# Altium schematic symbol library STM32 24V Industrial IO Bridge.SCHLIB: 34 symbols
Pins are listed as number, name and electrical type; pins without a type are passive.

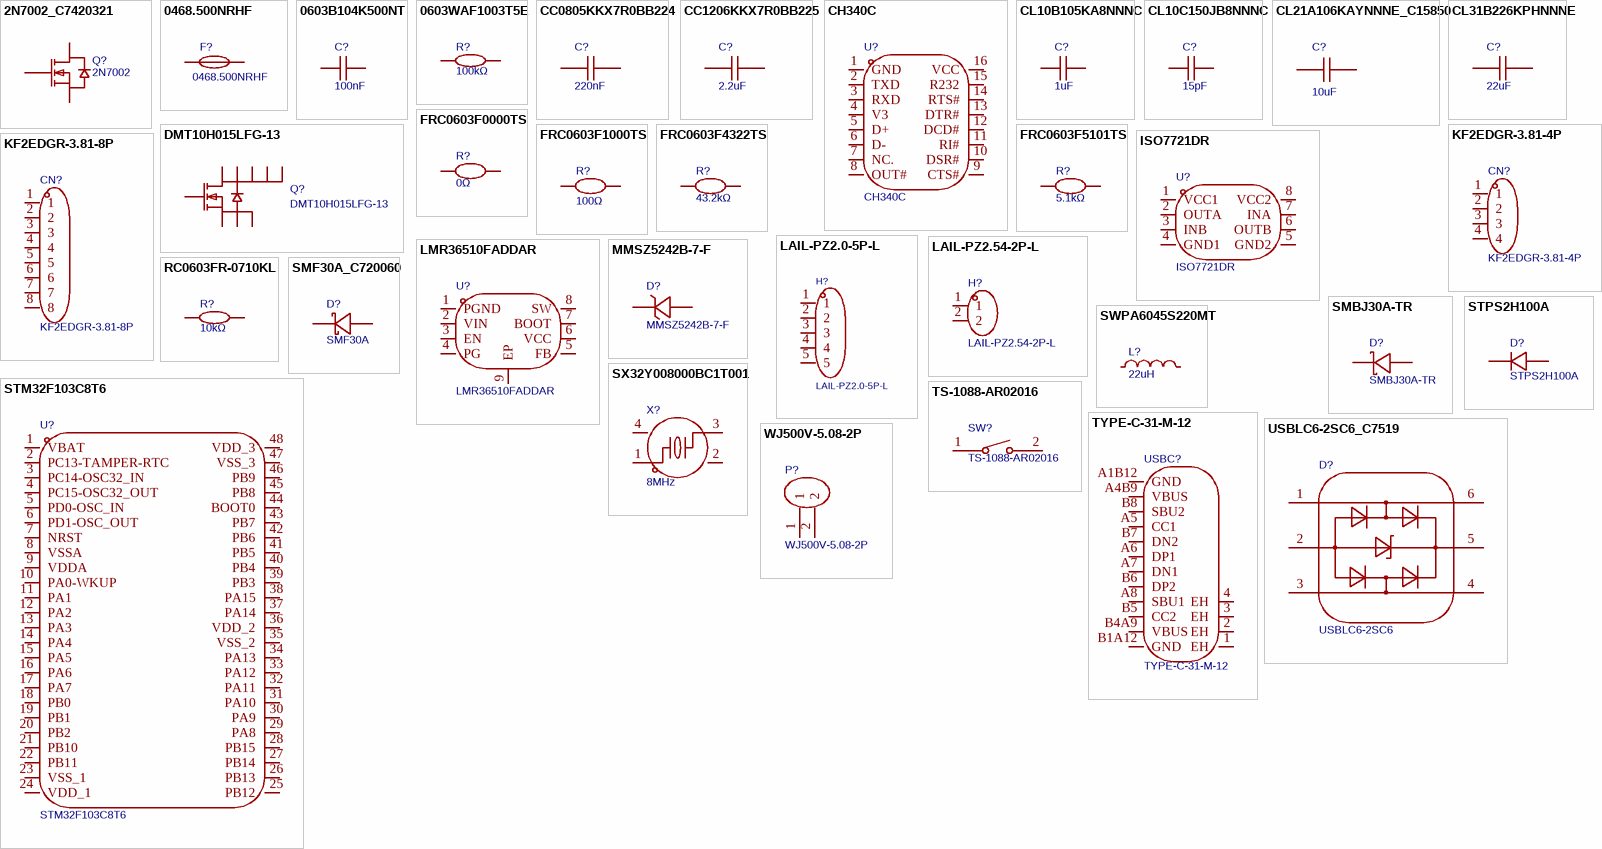
[diagram p0: symbols 2N7002_C7420321 to WJ500V-5.08-2P]

## 2N7002_C7420321
designator Q?, comment 2N7002
数量:1个N沟道;漏源电压(Vdss):60V;连续漏极电流(Id):115mA;导通电阻(RDS(on)):900mΩ@10V;耗散功率(Pd):225mW;阈值电压(Vgs(th)):1.6V@250uA;; Manufacturer: R+O(宏嘉诚); Symbol: 2N7002_C7420321; 3D Model: c62791f0466c4ae2a892c056b845b0ca聨0819f05c4eef4c71ace90d822a990e87; 3D Model Transform: 98.425,114.173,0,180,0,0,0.0005,-0.0005,0; Number: 1个N沟道; Drain to Source Voltage: 60V; Current - Continuous Drain(Id): 115mA; Pd - Power Dissipation: 225mW; Gate Charge(Qg): 1.6nC@10V; Input Capacitance(Ciss): 50pF; Reverse Transfer Capacitance (Crss@Vds): 5pF; Type: N沟道; Output Capacitance(Coss): 25pF; AddInBom: yes; ModelName: SOT-23-3P_L2.9-W1.3-H1.0-LS2.4-P0.95; Device: 2N7002_C7420321; LCSC Part Name: N沟道,电流:115mA,耐压:60V; Supplier Part: C7420321; Manufacturer Part: 2N7002; Supplier Footprint: SOT-23; JLCPCB Part Class: Extended Part; Datasheet: https://item.szlcsc.com/datasheet/2N7002/8397143.html; Supplier: LCSC; RDS(on): 900mΩ@10V; Gate Threshold Voltage (Vgs(th)): 1.6V@250uA; Operating Temperature: -55℃~+150℃; ConvertToPcb: yes; FootprintName: SOT-23-3_L2.9-W1.3-P1.90-LS2.4-BR
footprint SOT-23-3_L2.9-W1.3-P1.90-LS2.4-BR
3D model SOT-23-3P_L2.9-W1.3-H1.0-LS2.4-P0.95
pins: 1 G, 2 S, 3 D

## 0468.500NRHF
designator F?
类型:贴片式保险丝;额定电流:500mA;额定电压:63V;分断能力:50A;; Manufacturer: Littelfuse(美国力特); AddInBom: yes; ModelId: f1628daad26847a79b887277a2bc8541聨0819f05c4eef4c71ace90d822a990e87; ModelName: F1206_L3.2-W1.7-H0.6; ModelTransform: 125.984,66.929,0,0,0,0,0,0,0; Type: 贴片式保险丝; Current Rating: 500mA; Voltage Rating (DC): 63V; Melting I2t: 0.031; Interrupt Rating: 50A; Symbol: 0468.500NRHF; Device: 0468.500NRHF; LCSC Part Name: 贴片式保险丝; SupplierPart: C206993; ManufacturerPart: 0468.500NRHF; Supplier Footprint: 1206; JLCPCB Part Class: Extended Part; Datasheet: https://item.szlcsc.com/datasheet/0468.500NRHF/208112.html; Supplier: LCSC; ConvertToPcb: yes; FootprintName: F1206; Operating Temperature: -55℃~+90℃; Diameter (φD): -; Length: 3.2mm; Width: 1.6mm; Height: 0.635mm; Pitch: -
footprint F1206
pins: 1, 2

## 0603B104K500NT
designator C?, comment 100nF
容值:100nF;精度:±10%;额定电压:50V;温度系数:X7R;; Manufacturer: FH(风华); Symbol: 0603B104K500NT; Add into BOM: yes; 3D Model: ac125912035d415993ca9572d50418b1; 3D Model Transform: 62.992,31.496,0,0,0,0,0,0,0; Tolerance: ±10%; Voltage Rating: 50V; Temperature Coefficient: X7R; ModelName: C0603_L1.6-W0.8-H0.8; Device: 0603B104K500NT; Convert to PCB: yes; Supplier Footprint: 0603; Value: 100nF; LCSC Part Name: 100nF ±10% 50V; Supplier Part: C30926; Manufacturer Part: 0603B104K500NT; JLCPCB Part Class: Extended Part; Datasheet: https://item.szlcsc.com/datasheet/0603B104K500NT/31683.html; Supplier: LCSC; FootprintName: C0603
footprint C0603
3D model C0603_L1.6-W0.8-H0.8
pins: 1, 2

## 0603WAF1003T5E
designator R?, comment 100kΩ
电阻类型:厚膜电阻;阻值:100kΩ;精度:±1%;功率:100mW;工作电压:75V;温度系数:±100ppm/℃;; Manufacturer: UNI-ROYAL(厚声); Symbol: 0603WAF1003T5E; Add into BOM: yes; 3D Model: fc143cca1e79419f9cd78b61e9279f08; 3D Model Transform: 31.8897,63.7794,0,90,0,0,0,0,0; Tolerance: ±1%; Power(Watts): 100mW; Voltage-Supply(Max): 75V; ModelName: R0603; Device: 0603WAF1003T5E; Convert to PCB: yes; Supplier Footprint: 0603; Value: 100kΩ; LCSC Part Name: 厚膜电阻 100kΩ ±1%; Supplier Part: C25803; Manufacturer Part: 0603WAF1003T5E; JLCPCB Part Class: Basic Part; Datasheet: https://item.szlcsc.com/datasheet/0603WAF1003T5E/26546.html; Supplier: LCSC; Type: 厚膜电阻; Temperature Coefficient: ±100ppm/℃; Operating Temperature: -55℃~+155℃; FootprintName: R0603
footprint R0603
3D model R0603
pins: 1, 2

## CC0805KKX7R0BB224
designator C?, comment 220nF
容值:220nF;精度:±10%;额定电压:100V;温度系数:X7R;; Manufacturer: YAGEO(国巨); Symbol: CC0805KKX7R0BB224; Add into BOM: yes; 3D Model: 1ba041120af144c991958decab20d241; 3D Model Transform: 78.74,51.181,0,0,0,0,0,0.0005,0; Tolerance: ±10%; Voltage Rating: 100V; Temperature Coefficient: X7R; ModelName: C0805_L2.0-W1.3-H1.3; Device: CC0805KKX7R0BB224; Convert to PCB: yes; Value: 220nF; Supplier Footprint: 0805; LCSC Part Name: 220nF ±10% 100V; Supplier Part: C513710; Manufacturer Part: CC0805KKX7R0BB224; JLCPCB Part Class: Extended Part; Datasheet: https://item.szlcsc.com/datasheet/CC0805KKX7R0BB224/528537.html; Supplier: LCSC; FootprintName: C0805
footprint C0805
3D model C0805_L2.0-W1.3-H1.3
pins: 1, 2

## CC1206KKX7R0BB225
designator C?, comment 2.2uF
容值:2.2uF;精度:±10%;额定电压:100V;温度系数:X7R;; Manufacturer: YAGEO(国巨); Symbol: CC1206KKX7R0BB225; Add into BOM: yes; 3D Model: e4be705b945545a48e666415e3682bd8; 3D Model Transform: 125.984,62.992,0,0,0,0,0,0,0; Tolerance: ±10%; Voltage Rating: 100V; Temperature Coefficient: X7R; ModelName: C1206_L3.2-W1.6-H1.3; Device: CC1206KKX7R0BB225; Convert to PCB: yes; Value: 2.2uF; Supplier Footprint: 1206; LCSC Part Name: 2.2uF ±10% 100V; Supplier Part: C577211; Manufacturer Part: CC1206KKX7R0BB225; JLCPCB Part Class: Extended Part; Datasheet: https://item.szlcsc.com/datasheet/CC1206KKX7R0BB225/604702.html; Supplier: LCSC; FootprintName: C1206
footprint C1206
3D model C1206_L3.2-W1.6-H1.3
pins: 1, 2

## CH340C
designator U?
应用功能:收发器;USB协议版本:USB 2.0;通道数:-;数据速率:2Mbps;; Manufacturer: WCH(南京沁恒); AddInBom: yes; ModelId: 3361a6792abf4a8f8fbca4f1924a67ee聨0819f05c4eef4c71ace90d822a990e87; ModelName: SOP-16_L9.9-W3.9-H1.5-LS6.0-P1.27; ModelTransform: 240.39054,393.7,0,90,0,0,0,0,0; Applications Function: 收发器; USB Protocol: USB 2.0; Voltage - Supply: 3.3V；5V; Data Rate: 2Mbps; Current - Supply: 7mA; Quiescent Supply Current: 50uA; Symbol: CH340C; Device: CH340C; LCSC Part Name: USB转串口芯片; SupplierPart: C84681; ManufacturerPart: CH340C; Supplier Footprint: SOP-16; JLCPCB Part Class: Extended Part; Datasheet: https://item.szlcsc.com/datasheet/CH340C/85852.html; Supplier: LCSC; ConvertToPcb: yes; FootprintName: SOP-16_L10.0-W3.9-P1.27-LS6.0-BL; Number of Channels: -; Operating Temperature: -20℃~+70℃; Features: 可编程波特率；内置时钟发生器；上电复位
footprint SOP-16_L10.0-W3.9-P1.27-LS6.0-BL
pins: 1 GND, 2 TXD, 3 RXD, 4 V3, 5 D+, 6 D-, 7 NC., 8 OUT#, 9 CTS#, 10 DSR#, 11 RI#, 12 DCD#, 13 DTR#, 14 RTS#, 15 R232, 16 VCC

## CL10B105KA8NNNC
designator C?, comment 1uF
容值:1uF;精度:±10%;额定电压:25V;温度系数:X7R;; Manufacturer: SAMSUNG(三星); Symbol: CL10B105KA8NNNC; Add into BOM: yes; 3D Model: ac125912035d415993ca9572d50418b1; 3D Model Transform: 62.992,31.496,0,0,0,0,0,0,0; Tolerance: ±10%; Voltage Rating: 25V; Temperature Coefficient: X7R; ModelName: C0603_L1.6-W0.8-H0.8; Device: CL10B105KA8NNNC; Convert to PCB: yes; Value: 1uF; Supplier Footprint: 0603; LCSC Part Name: 1uF ±10% 25V; Supplier Part: C29936; Manufacturer Part: CL10B105KA8NNNC; JLCPCB Part Class: Extended Part; Datasheet: https://item.szlcsc.com/datasheet/CL10B105KA8NNNC/30690.html; Supplier: LCSC; FootprintName: C0603
footprint C0603
3D model C0603_L1.6-W0.8-H0.8
pins: 1, 2

## CL10C150JB8NNNC
designator C?, comment 15pF
容值:15pF;精度:±5%;额定电压:50V;温度系数:C0G;; Manufacturer: SAMSUNG(三星); Symbol: CL10C150JB8NNNC; Add into BOM: yes; 3D Model: ac125912035d415993ca9572d50418b1; 3D Model Transform: 62.992,31.496,0,0,0,0,0,0,0; Tolerance: ±5%; Voltage Rating: 50V; Temperature Coefficient: C0G; ModelName: C0603_L1.6-W0.8-H0.8; Device: CL10C150JB8NNNC; Convert to PCB: yes; Value: 15pF; Supplier Footprint: 0603; LCSC Part Name: 15pF ±5% 50V; Supplier Part: C1644; Manufacturer Part: CL10C150JB8NNNC; JLCPCB Part Class: Basic Part; Datasheet: https://item.szlcsc.com/datasheet/CL10C150JB8NNNC/1996.html; Supplier: LCSC; FootprintName: C0603
footprint C0603
3D model C0603_L1.6-W0.8-H0.8
pins: 1, 2

## CL21A106KAYNNNE_C15850
designator C?, comment 10uF
容值:10uF;精度:±10%;额定电压:25V;温度系数:X5R;; Manufacturer: SAMSUNG(三星); Symbol: CL21A106KAYNNNE; Device: CL21A106KAYNNNE_C15850; Add into BOM: yes; 3D Model: 1ba041120af144c991958decab20d241; 3D Model Transform: 78.74,51.181,0,0,0,0,0,0.0005,0; Tolerance: ±10%; Voltage Rating: 25V; Temperature Coefficient: X5R; ModelName: C0805_L2.0-W1.3-H1.3; Convert to PCB: yes; Value: 10uF; Supplier Footprint: 0805; LCSC Part Name: 10uF ±10% 25V; Supplier Part: C15850; Manufacturer Part: CL21A106KAYNNNE; JLCPCB Part Class: Basic Part; Datasheet: https://item.szlcsc.com/datasheet/CL21A106KAYNNNE/16532.html; Supplier: LCSC; FootprintName: C0805
footprint C0805
3D model C0805_L2.0-W1.3-H1.3
pins: 1, 2

## CL31B226KPHNNNE
designator C?, comment 22uF
容值:22uF;精度:±10%;额定电压:10V;温度系数:X7R;; Manufacturer: SAMSUNG(三星); Symbol: CL31B226KPHNNNE; Add into BOM: yes; 3D Model: e4be705b945545a48e666415e3682bd8; 3D Model Transform: 125.984,62.992,0,0,0,0,0,0,0; Tolerance: ±10%; Voltage Rating: 10V; Temperature Coefficient: X7R; ModelName: C1206_L3.2-W1.6-H1.3; Device: CL31B226KPHNNNE; Convert to PCB: yes; Value: 22uF; Supplier Footprint: 1206; LCSC Part Name: 22uF ±10% 10V; Supplier Part: C87996; Manufacturer Part: CL31B226KPHNNNE; JLCPCB Part Class: Extended Part; Datasheet: https://item.szlcsc.com/datasheet/CL31B226KPHNNNE/89174.html; Supplier: LCSC; FootprintName: C1206
footprint C1206
3D model C1206_L3.2-W1.6-H1.3
pins: 1, 2

## DMT10H015LFG-13
designator Q?
数量:1个N沟道;漏源电压(Vdss):100V;连续漏极电流(Id):42A；10A;导通电阻(RDS(on)):13.5mΩ@10V;耗散功率(Pd):2W；35W;阈值电压(Vgs(th)):3.5V;; Manufacturer: DIODES(美台); AddInBom: yes; ModelId: ffb4bc7fd9f5455f82908568c15d55f5聨0819f05c4eef4c71ace90d822a990e87; ModelName: POWERDI3333-8_L3.3-W3.3-P0.65-LS3.7-BL-EP; ModelTransform: 130.708,130.708,0,0,0,0,0,0.002,0; Number: 1个N沟道; Drain to Source Voltage: 100V; Pd - Power Dissipation: 2W；35W; Gate Threshold Voltage (Vgs(th)): 3.5V; Gate Charge(Qg): 33.3nC@10V; Input Capacitance(Ciss): 1.871nF; Reverse Transfer Capacitance (Crss@Vds): 6.9pF; Symbol: DMT10H015LFG-13; Device: DMT10H015LFG-13; LCSC Part Name: 1个N沟道 耐压:100V 电流:42A 电流:10A; SupplierPart: C6021899; ManufacturerPart: DMT10H015LFG-13; Supplier Footprint: PowerDI3333-8; JLCPCB Part Class: Extended Part; Datasheet: https://item.szlcsc.com/datasheet/DMT10H015LFG-13/6960463.html; Supplier: LCSC; ConvertToPcb: yes; FootprintName: POWERDI3333-8_L3.3-W3.3-P0.65-LS3.7-BL-EP; Current - Continuous Drain(Id): 42A；10A; RDS(on): 13.5mΩ@10V; Operating Temperature: -55℃~+150℃
footprint POWERDI3333-8_L3.3-W3.3-P0.65-LS3.7-BL-EP
pins: 1 S, 2 S, 3 S, 4 G, 5 D, 6 D, 7 D, 8 D, 9 D

## FRC0603F0000TS
designator R?, comment 0Ω
电阻类型:厚膜电阻;阻值:0Ω;精度:±1%;功率:100mW;工作电压:75V;; Manufacturer: FOJAN(富捷); Symbol: FRC0603F0000TS; Add into BOM: yes; 3D Model: fc143cca1e79419f9cd78b61e9279f08; 3D Model Transform: 31.8897,63.7794,0,90,0,0,0,0,0; Tolerance: ±1%; Power(Watts): 100mW; Voltage-Supply(Max): 75V; ModelName: R0603; Device: FRC0603F0000TS; Convert to PCB: yes; Supplier Footprint: 0603; Value: 0Ω; LCSC Part Name: 0Ω ±1% 100mW 厚膜电阻; Supplier Part: C2906974; Manufacturer Part: FRC0603F0000TS; JLCPCB Part Class: Extended Part; Supplier: LCSC; Type: 厚膜电阻; Operating Temperature: -55℃~+155℃; FootprintName: R0603
footprint R0603
3D model R0603
pins: 1, 2

## FRC0603F1000TS
designator R?, comment 100Ω
电阻类型:厚膜电阻;阻值:100Ω;精度:±1%;功率:100mW;工作电压:75V;温度系数:±100ppm/℃;; Manufacturer: FOJAN(富捷); Symbol: FRC0603F1000TS; Add into BOM: yes; 3D Model: fc143cca1e79419f9cd78b61e9279f08; 3D Model Transform: 31.8897,63.7794,0,90,0,0,0,0,0; Tolerance: ±1%; Power(Watts): 100mW; Voltage-Supply(Max): 75V; ModelName: R0603; Device: FRC0603F1000TS; Convert to PCB: yes; Supplier Footprint: 0603; Value: 100Ω; LCSC Part Name: 100Ω ±1% 100mW 厚膜电阻; Supplier Part: C2906981; Manufacturer Part: FRC0603F1000TS; JLCPCB Part Class: Extended Part; Datasheet: https://item.szlcsc.com/datasheet/FRC0603F1000TS/3180494.html; Supplier: LCSC; Type: 厚膜电阻; Temperature Coefficient: ±100ppm/℃; Operating Temperature: -55℃~+155℃; FootprintName: R0603
footprint R0603
3D model R0603
pins: 1, 2

## FRC0603F4322TS
designator R?, comment 43.2kΩ
电阻类型:厚膜电阻;阻值:43.2kΩ;精度:±1%;功率:100mW;工作电压:75V;温度系数:±100ppm/℃;; Manufacturer: FOJAN(富捷); Symbol: FRC0603F4322TS; Add into BOM: yes; 3D Model: fc143cca1e79419f9cd78b61e9279f08; 3D Model Transform: 31.8897,63.7794,0,90,0,0,0,0,0; Tolerance: ±1%; Power(Watts): 100mW; Voltage-Supply(Max): 75V; ModelName: R0603; Device: FRC0603F4322TS; Convert to PCB: yes; Supplier Footprint: 0603; Value: 43.2kΩ; LCSC Part Name: 43.2kΩ ±1% 100mW 厚膜电阻; Supplier Part: C2930102; Manufacturer Part: FRC0603F4322TS; JLCPCB Part Class: Extended Part; Supplier: LCSC; Type: 厚膜电阻; Temperature Coefficient: ±100ppm/℃; Operating Temperature: -55℃~+155℃; FootprintName: R0603
footprint R0603
3D model R0603
pins: 1, 2

## FRC0603F5101TS
designator R?, comment 5.1kΩ
电阻类型:厚膜电阻;阻值:5.1kΩ;精度:±1%;功率:100mW;工作电压:75V;温度系数:±100ppm/℃;; Manufacturer: FOJAN(富捷); Symbol: FRC0603F5101TS; Add into BOM: yes; 3D Model: fc143cca1e79419f9cd78b61e9279f08; 3D Model Transform: 31.8897,63.7794,0,90,0,0,0,0,0; Tolerance: ±1%; Power(Watts): 100mW; Voltage-Supply(Max): 75V; ModelName: R0603; Device: FRC0603F5101TS; Convert to PCB: yes; Supplier Footprint: 0603; Value: 5.1kΩ; LCSC Part Name: 5.1kΩ ±1% 100mW 厚膜电阻; Supplier Part: C2907044; Manufacturer Part: FRC0603F5101TS; JLCPCB Part Class: Extended Part; Supplier: LCSC; Type: 厚膜电阻; Temperature Coefficient: ±100ppm/℃; Operating Temperature: -55℃~+155℃; FootprintName: R0603
footprint R0603
3D model R0603
pins: 1, 2

## ISO7721DR
designator U?
ISO7721 EMC 性能优异的双通道、1/1、增强型数字隔离器; Manufacturer: TI(德州仪器); AddInBom: yes; ModelId: 7abc64c95a1a4a04a4ef38f9097c870b聨0819f05c4eef4c71ace90d822a990e87; ModelName: SOIC-8_L5.0-W4.0-P1.27-LS6.0-BL; ModelTransform: 192.913,236.22,0,0,0,0,0,0,0; Number of Forward Channels: 1; Data Rate(Max): 100Mbps; Default Output: 高电平; Isolation Voltage(Vrms): 5000; CMTI(kV/us): 100kV/us; Propagation Delay(tpd): 11ns; Voltage - Supply(VCCA): 2.25V~5.5V; Symbol: ISO7721DR; Device: ISO7721DR; LCSC Part Name: EMC性能优异的高速 增强型和基础型双通道数字隔离器; SupplierPart: C366164; ManufacturerPart: ISO7721DR; Supplier Footprint: SOIC-8; JLCPCB Part Class: Extended Part; Datasheet: https://www.ti.com/cn/lit/gpn/iso7721; Supplier: LCSC; ConvertToPcb: yes; FootprintName: SOIC-8_L5.0-W4.0-P1.27-LS6.0-BL; Number of Reverse Channels: 1; Features: 失效安全输出; Voltage - Supply(VCCB): 2.25V~5.5V; Operating Temperature: -55℃~+125℃
footprint SOIC-8_L5.0-W4.0-P1.27-LS6.0-BL
pins: 1 VCC1, 2 OUTA, 3 INB, 4 GND1, 5 GND2, 6 OUTB, 7 INA, 8 VCC2

## KF2EDGR-3.81-4P
designator CN?
连接器类型:板端/插座-闭口;结构:1x4P;间距:3.81mm;颜色:绿色;安装方式:弯插;排数:1;每排PIN数:4;额定电流:8A;额定电压:300V;工作温度:-40℃~+105℃;; Manufacturer: KEFA(科发); AddInBom: yes; ModelId: 92f33792c81f433e85da8d70412a8b64聨0819f05c4eef4c71ace90d822a990e87; ModelName: CONN-TH_KF3.81-WI-4P; ModelTransform: 634.644,360.2355,0,0,0,0,0,-118.11,-137.795; Number of Positions or Pins: 1x4P; Pitch: 3.81mm; Number of PINs Per Row: 4; Current Rating: 8A; Voltage Rating (Max): 300V; Symbol: KF2EDGR-3.81-4P; Device: KF2EDGR-3.81-4P; LCSC Part Name: 1x4P 3.81mm 排数:1 每排P数:4; SupplierPart: C441184; ManufacturerPart: KF2EDGR-3.81-4P; Supplier Footprint: 弯插,P=3.81mm; JLCPCB Part Class: Extended Part; Datasheet: https://item.szlcsc.com/datasheet/KF2EDGR-3.81-4P/441157.html; Supplier: LCSC; ConvertToPcb: yes; FootprintName: CONN-TH_4P-P3.81_KF2EDGR-3.81-4P; Connector Type: 板端/插座-闭口; Color: 绿色; Mounting Type: 弯插; Number of Pins: 4P; Number of Rows: 1; Operating Temperature: -40℃~+105℃
footprint CONN-TH_4P-P3.81_KF2EDGR-3.81-4P
pins: 1, 2, 3, 4

## KF2EDGR-3.81-8P
designator CN?
连接器类型:板端/插座-闭口;结构:1x8P;间距:3.81mm;颜色:绿色;安装方式:弯插;排数:1;每排PIN数:8;额定电流:8A;额定电压:300V;工作温度:-40℃~+105℃;; Manufacturer: KEFA(科发); AddInBom: yes; ModelId: d9aa468e28fd44bdb19493be11d6b8ec聨0819f05c4eef4c71ace90d822a990e87; ModelName: CONN-TH_8P-P3.81_KF2EDGR-3.81-8P; ModelTransform: 1231.4936,362.204,0,0,0,0,0,-129.882,-149.606; Number of Positions or Pins: 1x8P; Pitch: 3.81mm; Number of PINs Per Row: 8; Current Rating: 8A; Voltage Rating (Max): 300V; Symbol: KF2EDGR-3.81-8P; Device: KF2EDGR-3.81-8P; LCSC Part Name: 1x8P 3.81mm 排数:1 每排P数:8; SupplierPart: C441188; ManufacturerPart: KF2EDGR-3.81-8P; Supplier Footprint: 弯插,P=3.81mm; JLCPCB Part Class: Extended Part; Datasheet: https://item.szlcsc.com/datasheet/KF2EDGR-3.81-8P/441161.html; Supplier: LCSC; ConvertToPcb: yes; FootprintName: CONN-TH_8P-P3.81_KF2EDGR-3.81-8P; Connector Type: 板端/插座-闭口; Color: 绿色; Mounting Type: 弯插; Number of Pins: 8P; Number of Rows: 1; Operating Temperature: -40℃~+105℃
footprint CONN-TH_8P-P3.81_KF2EDGR-3.81-8P
pins: 1, 2, 3, 4, 5, 6, 7, 8

## LAIL-PZ2.0-5P-L
designator H?
插针结构:1x5P;间距:2mm;圆针/方针:方针;排数:单排;总PIN位数:5P;额定电流:2A;额定电压:250V;塑高:2mm;端接针长度:2.8mm;触头材质:黄铜;触头镀层:金;工作温度:-25℃~+80℃;颜色:黑色;; Manufacturer: LAILAN(莱联); AddInBom: yes; Pin Structure: 1x5P; Pitch: 2mm; Circluar Pins/Square Pins: 方针; Current Rating: 2A; Voltage Rating (Max): 250V; Symbol: LAIL-PZ2.0-5P-L; Device: LAIL-PZ2.0-5P-L; LCSC Part Name: 1x5P 间距:2mm 方针; SupplierPart: C54950582; ManufacturerPart: LAIL-PZ2.0-5P-L; Supplier Footprint: 插件,P=2mm; JLCPCB Part Class: Extended Part; Datasheet: https://item.szlcsc.com/datasheet/LAIL-PZ2.0-5P-L/58519935.html; Supplier: LCSC; ConvertToPcb: yes; FootprintName: HDR-TH_LAIL-PZ2.0-5P-L; Number of Rows: 单排; Number of Pins: 5P; Insulation Height: 2mm; Length of End Connection Pin: 2.8mm; Contact Material: 黄铜; Contact Plating: 金; Operating Temperature: -25℃~+80℃; Color: 黑色
footprint HDR-TH_LAIL-PZ2.0-5P-L
pins: 1, 2, 3, 4, 5

## LAIL-PZ2.54-2P-L
designator H?
插针结构:1x2P;间距:2.54mm;圆针/方针:方针;排数:单排;总PIN位数:2P;额定电流:3A;额定电压:250V;塑高:2.5mm;端接针长度:3mm;触头材质:黄铜;触头镀层:金;工作温度:-25℃~+80℃;颜色:黑色;; Manufacturer: 莱联; AddInBom: yes; Pin Structure: 1x2P; Pitch: 2.54mm; Circluar Pins/Square Pins: 方针; Current Rating: 3A; Voltage Rating (Max): 250V; Symbol: LAIL-PZ2.54-2P-L; Device: LAIL-PZ2.54-2P-L; LCSC Part Name: 1x2P 间距:2.54mm 方针; SupplierPart: C54950603; ManufacturerPart: LAIL-PZ2.54-2P-L; Supplier Footprint: 插件,P=2.54mm; JLCPCB Part Class: Extended Part; Datasheet: https://item.szlcsc.com/datasheet/LAIL-PZ2.54-2P-L/58519956.html; Supplier: LCSC; ConvertToPcb: yes; FootprintName: CONN-TH_LAIL-PZ2.54-2P-L; Number of Rows: 单排; Number of Pins: 2P; Insulation Height: 2.5mm; Length of End Connection Pin: 3mm; Contact Material: 黄铜; Contact Plating: 金; Operating Temperature: -25℃~+80℃; Color: 黑色
footprint CONN-TH_LAIL-PZ2.54-2P-L
pins: 1, 2

## LMR36510FADDAR
designator U?
功能类型:降压型;工作电压:4.2V~65V;输出电压:1V~28V;输出电流:1A;输出类型:可调;; Manufacturer: TI(德州仪器); AddInBom: yes; ModelId: 1edf17d9e1eb44b9aabe355eb95382d1聨0819f05c4eef4c71ace90d822a990e87; ModelName: ESOP-8_L4.9-W3.9-P1.27-LS6.0-BL-EP-1; ModelTransform: 192.913,236.22,0,0,0,0,0,0,0; Function: 降压型; Output Voltage: 1V~28V; Output Current: 1A; Frequency - Switching: 400kHz; Synchronous Rectifier: 是; Number of Outputs: 1; Topology: 降压式; Quiescent Current: 26uA; Switch tube (built-in/external): 内置; Output Type: 可调; Symbol: LMR36510FADDAR; Device: LMR36510FADDAR; LCSC Part Name: 降压型 1A 4.2V~65V; SupplierPart: C1858394; ManufacturerPart: LMR36510FADDAR; Supplier Footprint: ESOP-8; JLCPCB Part Class: Extended Part; Datasheet: https://www.ti.com/cn/lit/ds/symlink/lmr36510.pdf; Supplier: LCSC; ConvertToPcb: yes; FootprintName: ESOP-8_L4.9-W3.9-P1.27-LS6.0-BL-EP-1; Voltage - Supply: 4.2V~65V; Operating Temperature: -40℃~+125℃@(TJ); Features: 轻载高效模式；内置LDO稳压器；逐波限流；工作状态指示；打嗝限流
footprint ESOP-8_L4.9-W3.9-P1.27-LS6.0-BL-EP-1
pins: 1 PGND, 2 VIN, 3 EN, 4 PG, 5 FB, 6 VCC, 7 BOOT, 8 SW, 9 EP

## MMSZ5242B-7-F
designator D?
二极管配置:1个独立式;稳压值(标称值):12V;稳压值(范围值):11.4V~12.6V;耗散功率(Pd):370mW;; Manufacturer: DIODES(美台); AddInBom: yes; ModelId: 528459655f7d4601a76356f3191c812b聨0819f05c4eef4c71ace90d822a990e87; ModelName: SOD-123_L2.7-W1.6-LS3.7-RD-1; ModelTransform: 151.575,66.929,0,0,0,0,0,0,0; Diode Configuration: 1个独立式; Zener Voltage(Nom): 12V; Reverse Leakage Current (Ir): 1uA@9.1V; Pd - Power Dissipation: 370mW; Impedance(Zzt): 30Ω; Impedance(Zzk): 600Ω; Operating Junction Temperature Range: -65℃~+150℃; Symbol: MMSZ5242B-7-F; Device: MMSZ5242B-7-F; LCSC Part Name: 独立式 耐压:12V 电流:1uA@9.1V; SupplierPart: C500776; ManufacturerPart: MMSZ5242B-7-F; Supplier Footprint: SOD-123; JLCPCB Part Class: Extended Part; Datasheet: https://item.szlcsc.com/datasheet/MMSZ5242B-7-F/513114.html; Supplier: LCSC; ConvertToPcb: yes; FootprintName: SOD-123_L2.7-W1.6-LS3.7-RD-1; Zener Voltage(Range): 11.4V~12.6V
footprint SOD-123_L2.7-W1.6-LS3.7-RD-1
pins: 1 K, 2 A

## RC0603FR-0710KL
designator R?, comment 10kΩ
电阻类型:厚膜电阻;阻值:10kΩ;精度:±1%;功率:100mW;工作电压:75V;温度系数:±100ppm/℃;; Manufacturer: YAGEO(国巨); Symbol: RC0603FR-0710KL; Add into BOM: yes; 3D Model: fc143cca1e79419f9cd78b61e9279f08; 3D Model Transform: 31.8897,63.7794,0,90,0,0,0,0,0; Tolerance: ±1%; Power(Watts): 100mW; Voltage-Supply(Max): 75V; ModelName: R0603; Device: RC0603FR-0710KL; Convert to PCB: yes; Supplier Footprint: 0603; Value: 10kΩ; LCSC Part Name: 厚膜电阻 10kΩ ±1% 100mW; Supplier Part: C98220; Manufacturer Part: RC0603FR-0710KL; JLCPCB Part Class: Extended Part; Datasheet: https://item.szlcsc.com/datasheet/RC0603FR-0710KL/99429.html; Supplier: LCSC; Temperature Coefficient: ±100ppm/℃; Type: 厚膜电阻; Operating Temperature: -55℃~+155℃; FootprintName: R0603
footprint R0603
3D model R0603
pins: 1, 2

## SMBJ30A-TR
designator D?
极性:单向;反向截止电压(Vrwm):30V;钳位电压:64.3V;峰值脉冲电流(Ipp):13A;峰值脉冲功率(Ppp):4kW@8/20us;击穿电压(VBR):35.1V;; Manufacturer: ST(意法半导体); AddInBom: yes; ModelId: 5e8926c661484ff2a35b83e5ae62aeb9聨0819f05c4eef4c71ace90d822a990e87; ModelName: SMB_L4.6-W3.6-LS5.3-RD; ModelTransform: 212.598,141.732,0,0,0,0,0,0,0; Polarity: 单向; Reverse Stand-Off Voltage (Vrwm): 30V; Clamping Voltage: 64.3V; Peak Pulse Current (Ipp): 13A; Voltage - Breakdown: 35.1V; Reverse Leakage Current (Ir): 200nA; level of protection: IEC 61000-4-4；IEC 61000-4-2；IEC 61000-4-5; Type: TVS; Symbol: SMBJ30A-TR; Device: SMBJ30A-TR; LCSC Part Name: 单向TVS 30V截止 峰值浪涌电流：13A; SupplierPart: C133663; ManufacturerPart: SMBJ30A-TR; Supplier Footprint: SMB(DO-214AA); JLCPCB Part Class: Extended Part; Datasheet: https://item.szlcsc.com/datasheet/SMBJ30A-TR/144970.html; Supplier: LCSC; ConvertToPcb: yes; FootprintName: SMB_L4.6-W3.6-LS5.3-RD; Peak Pulse Power Dissipation (Ppp): 4kW@8/20us; Operating Temperature: -55℃~+150℃
footprint SMB_L4.6-W3.6-LS5.3-RD
pins: 1 K, 2 A

## SMF30A_C720060
designator D?, comment SMF30A
极性:单向;反向截止电压(Vrwm):30V;钳位电压:48.4V;峰值脉冲电流(Ipp):4.1A;峰值脉冲功率(Ppp):200W;击穿电压(VBR):33.3V;; Manufacturer: Littelfuse(美国力特); Symbol: SMF30A_C720060; AddInBom: yes; ModelId: 51ab086dae9e4453b49fd2b9d25433ae聨0819f05c4eef4c71ace90d822a990e87; ModelName: SOD-123FL_L2.7-W1.8-LS3.7-R-RD; ModelTransform: 143.701,70.866,0,0,0,0,0,0,0; Polarity: 单向; Reverse Stand-Off Voltage (Vrwm): 30V; Clamping Voltage: 48.4V; Peak Pulse Current (Ipp): 4.1A; Peak Pulse Power Dissipation (Ppp): 200W; Voltage - Breakdown: 33.3V; Reverse Leakage Current (Ir): 1uA; Number of Channels: 单路; level of protection: IEC 61000-4-4；IEC 61000-4-2; Type: TVS; Device: SMF30A_C720060; LCSC Part Name: 单向TVS 30V截止 峰值浪涌电流：4.1A; SupplierPart: C720060; ManufacturerPart: SMF30A; Supplier Footprint: SOD-123FL; JLCPCB Part Class: Extended Part; Datasheet: https://item.szlcsc.com/datasheet/SMF30A/763182.html; Supplier: LCSC; ConvertToPcb: yes; FootprintName: SOD-123FL_L2.7-W1.8-LS3.7-R-RD; Operating Temperature: -65℃~+150℃
footprint SOD-123FL_L2.7-W1.8-LS3.7-R-RD
pins: 1 A, 2 K

## STM32F103C8T6
designator U?
CPU内核:ARM Cortex-M3;CPU最大主频:72MHz;CPU位数:32 Bit;; Manufacturer: ST(意法半导体); AddInBom: yes; ModelId: 093be70396ff421eb2cdb946d5311efc聨0819f05c4eef4c71ace90d822a990e87; ModelName: LQFP-48_L7.0-W7.0-H1.4-LS9.0-P0.50; ModelTransform: 354.331,354.331,0,0,0,0,0,0,0; CPU Maximum Speed: 72MHz; Core Size: 32 Bit; Program Storage Size: 64KB; Program Memory Type: FLASH; RAM Size: 20KB; Number of I/O: 37; ADC (Bit): 12bit; Oscillator Type: 内置; Voltage - Supply: 2V~3.6V; Symbol: STM32F103C8T6; Device: STM32F103C8T6; LCSC Part Name: 主流增强型ARM Cortex-M3 MCU，具有64 KB Flash、72 MHz CPU、电机控制、USB和CAN; SupplierPart: C8734; ManufacturerPart: STM32F103C8T6; Supplier Footprint: LQFP-48(7x7); JLCPCB Part Class: Extended Part; Datasheet: https://item.szlcsc.com/datasheet/STM32F103C8T6/9243.html; Supplier: LCSC; ConvertToPcb: yes; FootprintName: LQFP-48_L7.0-W7.0-P0.50-LS9.0-BL; CPU Core: ARM Cortex-M3; EEPROM: -; Operating Temperature: -40℃~+85℃
footprint LQFP-48_L7.0-W7.0-P0.50-LS9.0-BL
pins: 1 VBAT, 2 PC13-TAMPER-RTC, 3 PC14-OSC32_IN, 4 PC15-OSC32_OUT, 5 PD0-OSC_IN, 6 PD1-OSC_OUT, 7 NRST, 8 VSSA, 9 VDDA, 10 PA0-WKUP, 11 PA1, 12 PA2, 13 PA3, 14 PA4, 15 PA5, 16 PA6, 17 PA7, 18 PB0, 19 PB1, 20 PB2, 21 PB10, 22 PB11, 23 VSS_1, 24 VDD_1, 25 PB12, 26 PB13, 27 PB14, 28 PB15, 29 PA8, 30 PA9, 31 PA10, 32 PA11, 33 PA12, 34 PA13, 35 VSS_2, 36 VDD_2, 37 PA14, 38 PA15, 39 PB3, 40 PB4, 41 PB5, 42 PB6, 43 PB7, 44 BOOT0, 45 PB8, 46 PB9, 47 VSS_3, 48 VDD_3

## STPS2H100A
designator D?
正向压降(Vf):790mV@2A;直流反向耐压(Vr):100V;整流电流:2A;; Manufacturer: ST(意法半导体); AddInBom: yes; ModelId: a2d22152f8d5421c8e96dbd56af7c345聨0819f05c4eef4c71ace90d822a990e87; ModelName: SMA_L4.4-W2.6-LS5.0-RD; ModelTransform: 204.724,98.425,0,0,0,0,0,0,0; Voltage - DC Reverse(Vr): 100V; Current - Rectified: 2A; Reverse Leakage Current (Ir): 1uA@100V; Non-Repetitive Peak Forward Surge Current: 75A; Symbol: STPS2H100A; Device: STPS2H100A; LCSC Part Name: 电压:100V 电流:2A; SupplierPart: C81548; ManufacturerPart: STPS2H100A; Supplier Footprint: SMA(DO-214AC); JLCPCB Part Class: Extended Part; Datasheet: https://item.szlcsc.com/datasheet/STPS2H100A/82700.html; Supplier: LCSC; ConvertToPcb: yes; FootprintName: SMA_L4.4-W2.6-LS5.0-RD; Voltage - Forward(Vf@If): 790mV@2A
footprint SMA_L4.4-W2.6-LS5.0-RD
pins: 1 C, 2 A

## SWPA6045S220MT
designator L?, comment 22uH
电感值:22uH;精度:±20%;额定电流:1.8A;饱和电流(Isat):2.2A;类型:-;; Manufacturer: Sunlord(顺络); Symbol: SWPA6045S220MT; AddInBom: yes; ModelId: 32cdbcb0fd69419d9d5b41a38560e127聨0819f05c4eef4c71ace90d822a990e87; ModelName: IND-SMD_L6.0-W6.0-H4.5; ModelTransform: 236.22,237.007,0,90,0,0,-0.001,0.001,0; Tolerance: ±20%; Current Rating: 1.8A; Current - Saturation(Isat): 2.2A; DC Resistance(DCR): 89mΩ; Device: SWPA6045S220MT; LCSC Part Name: 22uH ±20% 2.2A; SupplierPart: C83454; ManufacturerPart: SWPA6045S220MT; Supplier Footprint: SMD,6x6mm; JLCPCB Part Class: Extended Part; Datasheet: https://item.szlcsc.com/datasheet/SWPA6045S220MT/84618.html; Supplier: LCSC; ConvertToPcb: yes; FootprintName: IND-SMD_L6.0-W6.0_SWPA6045S; Value: 22uH; Type: -; Ratings: -
footprint IND-SMD_L6.0-W6.0_SWPA6045S
pins: 1, 2

## SX32Y008000BC1T001
designator X?, comment 8MHz
晶振类型:贴片晶振;频率:8MHz;常温频差:±10ppm;负载电容:12pF;频率稳定度:±30ppm;; Manufacturer: TKD(泰晶); Symbol: SX32Y008000BC1T001; AddInBom: yes; ModelId: ff2dfd5650294453a14147960efe1838聨0819f05c4eef4c71ace90d822a990e87; ModelName: CRYSTAL-SMD_4P-L3.2-W2.5-BL; ModelTransform: 125.984,98.425,0,0,0,0,0,0,0; Normal temperature Frequency Tolerance: ±10ppm; Load Capacitance: 12pF; Frequency Stability: ±30ppm; Equivalent Series Resistance(ESR): 300Ω; Device: SX32Y008000BC1T001; LCSC Part Name: 8MHz ±10ppm 12pF; SupplierPart: C20617233; ManufacturerPart: SX32Y008000BC1T001; Supplier Footprint: SMD3225-4P; JLCPCB Part Class: Extended Part; Datasheet: https://item.szlcsc.com/datasheet/SX32Y008000BC1T001/21988737.html; Supplier: LCSC; ConvertToPcb: yes; FootprintName: CRYSTAL-SMD_4P-L3.2-W2.5-BL; Type: 贴片晶振; Value: 8MHz; Operating Temperature: -40℃~+85℃
footprint CRYSTAL-SMD_4P-L3.2-W2.5-BL
pins: 1 CRYSTAL, 2 GND, 3 CRYSTAL, 4 GND

## TS-1088-AR02016
designator SW?
电路结构:单刀单掷;按钮形状:圆形按钮;作用力:1.6N;安装方式:立贴;开关长度:3.9mm;开关宽度:3mm;开关高度:2mm;带支架:不带支架;触点电流:50mA;额定电压:12V;带灯:-;工作寿命:10万次;; Manufacturer: XUNPU(讯普); Add into BOM: yes; 3D Model: b26698b69f274ffabef8a26c7d0e5dd1; 3D Model Transform: 188.976,114.174,0,0,0,0,0,0,0; Circuit: 单刀单掷; Actuator Style: 圆形按钮; Operating Force: 1.6N; Switch Height: 2mm; with Bracket: 不带支架; Contact Current: 50mA; Voltage Rating: 12V; Actuator/Cap Color: 黑色; Life: 10万次; ModelName: SW-SMD_L3.9-W2.9-H2.0-LS4.8; Symbol: TS-1088-AR02016; Device: TS-1088-AR02016; Convert to PCB: yes; Supplier Footprint: SMD,4x3mm; LCSC Part Name: 3.9*3*2mm 立贴 轻触开关; Supplier Part: C720477; Manufacturer Part: TS-1088-AR02016; JLCPCB Part Class: Basic Part; Datasheet: https://item.szlcsc.com/datasheet/TS-1088-AR02016/763484.html; Supplier: LCSC; Mounting Type: 立贴; Length: 3.9mm; Width: 3mm; With Lamp: -; IP Rating: -; Termination Style: SMD接片; Operating Temperature: -30℃~+80℃; FootprintName: SW-SMD_L3.9-W3.0-P4.45
footprint SW-SMD_L3.9-W3.0-P4.45
3D model SW-SMD_L3.9-W2.9-H2.0-LS4.8
pins: 1, 2

## TYPE-C-31-M-12
designator USBC?
连接器类型:Type-C;协议标准:-;公母:母;安装方式:卧贴;触点数量:16P;端口数量:1;额定电流 - 电源:5A;工作温度:-30℃~+80℃;; Manufacturer: 韩国韩荣; AddInBom: yes; ModelId: 2a22bb5af8894b85972aeeacf9cd92d0聨0819f05c4eef4c71ace90d822a990e87; ModelName: USB-C_SMD-TYPE-C-31-M-12_1; ModelTransform: 351.9678,311.023,0,180,0,0,0,-43.307,-33.465; Connector Type: Type-C; Gender: 母; Number of Contacts: 16P; Number of Ports: 1; Current Rating-Power: 5A; Voltage Rating: 20V; Connect-Disconnect Life: 1万次; Symbol: TYPE-C-31-M-12; Device: TYPE-C-31-M-12; LCSC Part Name: Type-C 母 卧贴; SupplierPart: C165948; ManufacturerPart: TYPE-C-31-M-12; Supplier Footprint: SMD; JLCPCB Part Class: Extended Part; Datasheet: https://item.szlcsc.com/datasheet/TYPE-C-31-M-12/177331.html; Supplier: LCSC; ConvertToPcb: yes; FootprintName: USB-C_SMD-TYPE-C-31-M-12_1; Protocol Standard: -; Mounting Type: 卧贴; Length: 7.35mm; Operating Temperature: -30℃~+80℃
footprint USB-C_SMD-TYPE-C-31-M-12_1
pins: 1 EH, 2 EH, 3 EH, 4 EH, A1B12 GND, A4B9 VBUS, A5 CC1, A6 DP1, A7 DN1, A8 SBU1, B1A12 GND, B4A9 VBUS, B5 CC2, B6 DP2, B7 DN2, B8 SBU2

## USBLC6-2SC6_C7519
designator D?, comment USBLC6-2SC6
极性:单向;反向截止电压(Vrwm):5.25V;钳位电压:17V;峰值脉冲电流(Ipp):5A;击穿电压:6V;; Manufacturer: ST(意法半导体); Device: USBLC6-2SC6_C7519; AddInBom: yes; ModelId: 18da8f6c14a34920b3e136b5c401a119聨0819f05c4eef4c71ace90d822a990e87; ModelName: SOT-23-6_L2.9-W1.6-H1.5-LS2.8-P0.95; ModelTransform: 110.236,113.364,0,90,0,0,0.0005,0.0005,0; Polarity: 单向; Reverse Stand-Off Voltage (Vrwm): 5.25V; Clamping Voltage: 17V; Peak Pulse Current (Ipp): 5A; Voltage - Breakdown: 6V; Reverse Leakage Current (Ir): 150nA; Number of Channels: 双路; level of protection: IEC 61000-4-2; Type: ESD; Junction Capacitance: 3.5pF; Symbol: USBLC6-2SC6; LCSC Part Name: 单向ESD; SupplierPart: C7519; ManufacturerPart: USBLC6-2SC6; Supplier Footprint: SOT-23-6L; JLCPCB Part Class: Extended Part; Datasheet: https://item.szlcsc.com/datasheet/USBLC6-2SC6/7996.html; Supplier: LCSC; ConvertToPcb: yes; FootprintName: SOT-23-6_L2.9-W1.6-P0.95-LS2.8-BL; Operating Temperature: -40℃~+125℃
footprint SOT-23-6_L2.9-W1.6-P0.95-LS2.8-BL
pins: 1, 2, 3, 4, 5, 6

## WJ500V-5.08-2P
designator P?
结构:1x2P;间距:5.08mm;颜色:绿色;安装方式:直插;额定电流:18A;额定电压:250V;排数:1;线规 - AWG:14~30;线规 - 平方毫米:2.5;每排PIN数:2;触头材质:-;触头镀层:-;工作温度范围:-40℃~+105℃;焊接温度(最大值):-;; Manufacturer: KANGNEX(康奈克斯电气); Symbol: WJ500V-5.08-2P-14-00A; 3D Model: 0f4a503c8d3b4ae19ed61267f5e9a1d7; 3D Model Transform: 423.621,393.7,0,0,0,0,-11.811,19.685,-137.795; Structure: 1x2P; Pitch: 5.08mm; Current Rating (Max): 18A; Voltage Rating (Max): 250V; Wire Gauge - AWG: 14~30; Wire Gauge - mm2: 2.5; Number of PINs Per Row: 2; Screw Specification: M2.5; AddInBom: yes; ModelName: CONN-TH_2P-P5.00_WJ500V-5.08-2P; Device: WJ500V-5.08-2P; LCSC Part Name: 1x2P 5.08mm 直插 排数:1 每排P数:2; Supplier Part: C8465; Manufacturer Part: WJ500V-5.08-2P; Supplier Footprint: 插件,P=5.08mm; JLCPCB Part Class: 扩展库; Datasheet: https://atta.szlcsc.com/upload/public/pdf/source/20191225/C8465_02D34CE5B5B4A53DF5891601D97FA9F4.pdf; Supplier: LCSC; Color: 绿色; Mounting Style: 直插; Number of Pins: 2P; Number of Rows: 1; Contact Material: -; Contact Plating: -; Operating Temperature Range: -40℃~+105℃; Soldering Temperature(Max): -; ConvertToPcb: yes; FootprintName: CONN-TH_2P-P5.00_WJ500V-5.08-2P
footprint CONN-TH_2P-P5.00_WJ500V-5.08-2P
3D model CONN-TH_2P-P5.00_WJ500V-5.08-2P
pins: 1, 2